# Altium schematic symbol library Schlib1.SchLib: 2 symbols
Pins are listed as number, name and electrical type; pins without a type are passive.

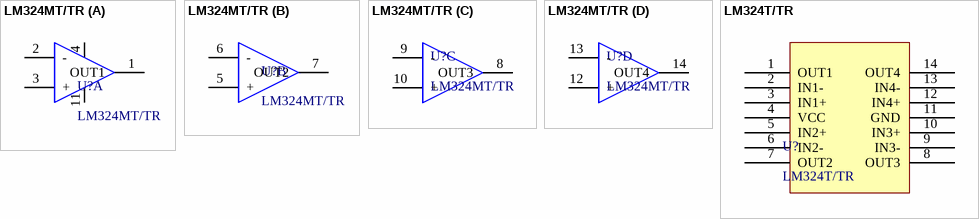
[diagram p0: symbols LM324MT/TR to LM324T/TR]

## LM324MT/TR
designator U?
part A pins: 1 OUT1, 2 -, 3 +, 4 VCC, 11 GND
part B pins: 5 +, 6 -, 7 OUT2
part C pins: 8 OUT3, 9 -, 10 +
part D pins: 12 +, 13 -, 14 OUT4

## LM324T/TR
designator U?
pins: 1 OUT1, 2 IN1-, 3 IN1+, 4 VCC, 5 IN2+, 6 IN2-, 7 OUT2, 8 OUT3, 9 IN3-, 10 IN3+, 11 GND, 12 IN4+, 13 IN4-, 14 OUT4